# Altium schematic symbol library RG2012P-472-B-T5.SchLib: 2 symbols
Pins are listed as number, name and electrical type; pins without a type are passive.

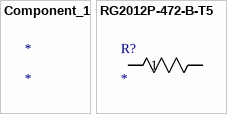
[diagram p0: symbols Component_1 to RG2012P-472-B-T5]

## Component_1
designator *

## RG2012P-472-B-T5
designator R?
No Description Available; Mfr_Name: Susumu
footprint RES_1220_SUS
pins: 1, 2